# EAGLE library part TTP226 (library drag-custom)
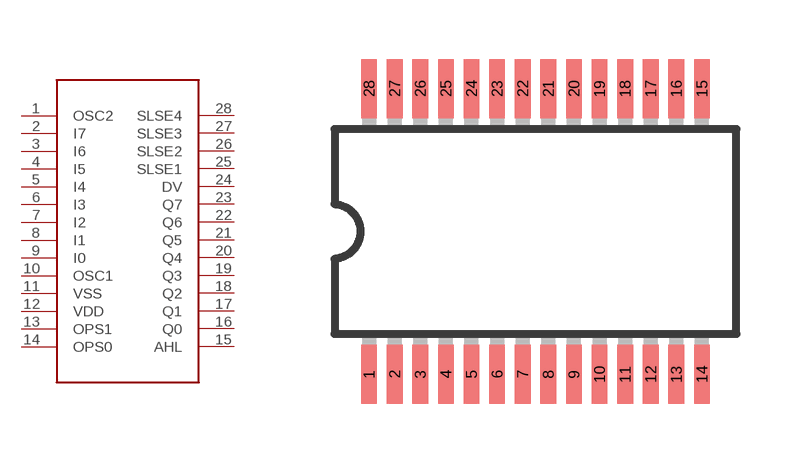
[diagram p20: symbol with the pads of SSOP28; footprint SSOP28]

Designator prefix -

## TTP226  [SSOP28]
1  OSC2
2  I7
3  I6
4  I5
5  I4
6  I3
7  I2
8  I1
9  I0
10  OSC1
11  VSS
12  VDD
13  OPS1
14  OPS0
15  AHL
16  Q0
17  Q1
18  Q2
19  Q3
20  Q4
21  Q5
22  Q6
23  Q7
24  DV
25  SLSE1
26  SLSE2
27  SLSE3
28  SLSE4

## Footprint SSOP28 (pad centres in mm)
smd 0.4 x 1.5: 1 -4.225,-3.625; 2 -3.575,-3.625; 3 -2.925,-3.625; 4 -2.275,-3.625; 5 -1.625,-3.625; 6 -0.975,-3.625; 7 -0.325,-3.625; 8 0.325,-3.625; 9 0.975,-3.625; 10 1.625,-3.625; 11 2.275,-3.625; 12 2.925,-3.625; 13 3.575,-3.625; 14 4.225,-3.625; 15 4.225,3.625; 16 3.575,3.625; 17 2.925,3.625; 18 2.275,3.625; 19 1.625,3.625; 20 0.975,3.625; 21 0.325,3.625; 22 -0.325,3.625; 23 -0.975,3.625; 24 -1.625,3.625; 25 -2.275,3.625; 26 -2.925,3.625; 27 -3.575,3.625; 28 -4.225,3.625